# EAGLE library part DRV777 (library talons-actuation)
Texas Instruments DRV777PWR: 7- bit Integrated Motor and Relay Driver Manufacturer <http://www.ti.com/product/drv777> Octopart <https://octopart.com/drv777pwr-texas+instruments-25888578> Farnell.de <http://de.farnell.com/texas-instruments/drv777pwr/motortreiber-relais-7bit-20v-16tssop/dp/2307948>
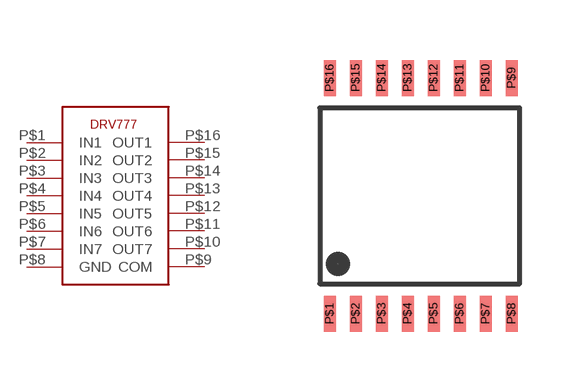
[diagram p1: symbol with the pads of TSSOP-16; footprint TSSOP-16]

Designator prefix -

## DRV777  [TSSOP-16]
P$1  IN1  in
P$2  IN2  in
P$3  IN3  in
P$4  IN4  in
P$5  IN5  in
P$6  IN6  in
P$7  IN7  in
P$8  GND  pwr
P$9  COM
P$10  OUT7  out
P$11  OUT6  out
P$12  OUT5  out
P$13  OUT4  out
P$14  OUT3  out
P$15  OUT2  out
P$16  OUT1  out

## Footprint TSSOP-16 (pad centres in mm)
smd 0.3 x 0.9: P$1 -2.25,-2.95; P$2 -1.6,-2.95; P$3 -0.95,-2.95; P$4 -0.3,-2.95; P$5 0.35,-2.95; P$6 1,-2.95; P$7 1.65,-2.95; P$8 2.3,-2.95; P$9 2.3,2.95; P$10 1.65,2.95; P$11 1,2.95; P$12 0.35,2.95; P$13 -0.3,2.95; P$14 -0.95,2.95; P$15 -1.6,2.95; P$16 -2.25,2.95